# Altium schematic symbol library cnc_hdmi.SchLib: 1 symbol
Pins are listed as number, name and electrical type; pins without a type are passive.

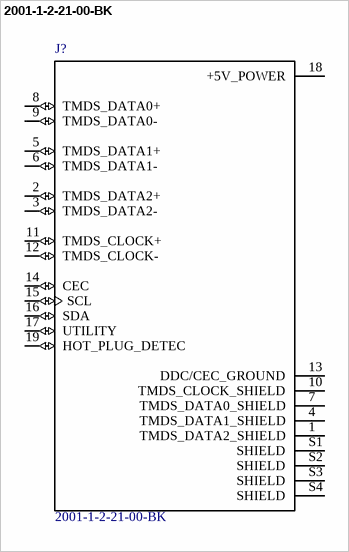
[diagram p0: symbol 2001-1-2-21-00-BK]

## 2001-1-2-21-00-BK
designator J?
Mini Hdmi 19p Female Smt; MF: CNC Tech; Digi-Key_Part_Number: 1175-1704-1-ND; Digi-Key_Purchase_URL: https://www.digikey.com/product-detail/en/cnc-tech/2001-1-2-21-00-BK/1175-1704-1-ND/4867013?utm_source=snapeda&utm_medium=aggregator&utm_campaign=symbol; Package: None; MP: 2001-1-2-21-00-BK; SnapEDA_Link: https://www.snapeda.com/parts/2001-1-2-21-00-BK/CNC%20Tech/view-part/?ref=snap; Value: *
footprint *CNC_2001-1-2-21-00-BK_2001-1-2-21-00-BK(Primary)
pins: 1 TMDS_DATA2_SHIELD (power), 2 TMDS_DATA2+ (io), 3 TMDS_DATA2- (io), 4 TMDS_DATA1_SHIELD (power), 5 TMDS_DATA1+ (io), 6 TMDS_DATA1- (io), 7 TMDS_DATA0_SHIELD (power), 8 TMDS_DATA0+ (io), 9 TMDS_DATA0- (io), 10 TMDS_CLOCK_SHIELD (power), 11 TMDS_CLOCK+ (io), 12 TMDS_CLOCK- (io), 13 DDC/CEC_GROUND (power), 14 CEC (io), 15 SCL (io), 16 SDA (io), 17 UTILITY (io), 18 +5V_POWER (power), 19 HOT_PLUG_DETEC (io), S1 SHIELD (power), S2 SHIELD (power), S3 SHIELD (power), S4 SHIELD (power)